# Altium footprint library Resistor.PcbLib: 3 footprints
Each footprint in its own frame and in the unit in brackets; x right, y up, seen from the top. Pads: shape width x height; smd on the part's side, far side on the other; paste and mask are expansions set on the pad; w line width, h text height; cw(c..) or ccw(c..) is an arc to the next point about the centre after c.
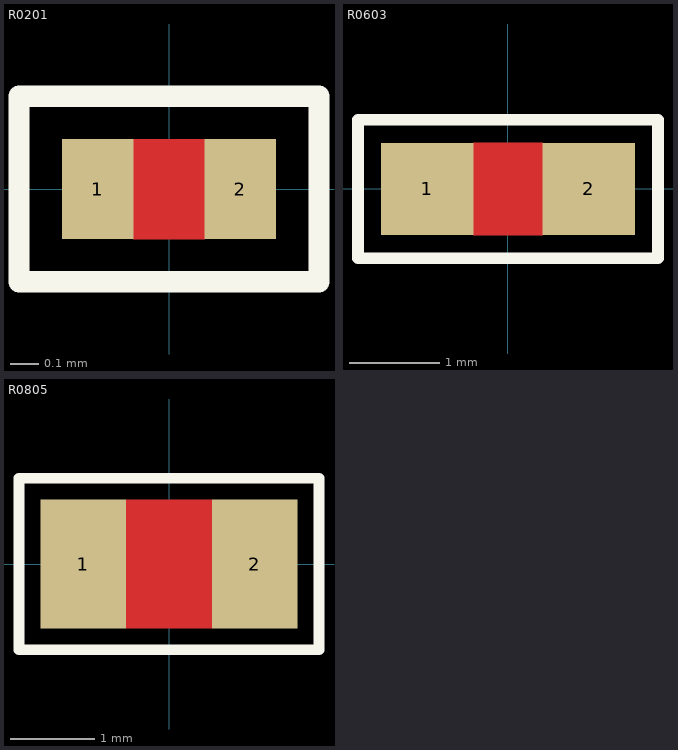
[diagram p0: the footprints below, top view; thin cyan lines are the x and y axes]

## R0201 [mil]
pads (2):
  rect 10x14 smd: 1(-10,0) 2(10,0)
Top Layer:
  pour cut-out: -5,7 5,7 5,-7 -5,-7
Top Overlay:
  lines w3: -21,-13 -21,13 21,13 21,-13 -21,-13
3D body "0201 Res.step": height 12.1, standoff 0, extent -11.99,-6 12.01,6

## R0603 [mil]
pads (2):
  rect 40x40 smd: 1(-35,0) 2(35,0)
Top Layer:
  pour cut-out: -15,20 15,20 15,-20 -15,-20
Top Overlay:
  lines w5: -65,-30 -65,30 65,30 65,-30 -65,-30
3D body "0603 SMD RES.step": height 11.89, standoff 0, extent -31.49,-15.74 31.5,15.75

## R0805 [mil]
pads (2):
  rect 40x60 smd: 1(-40,0) 2(40,0)
Top Layer:
  pour cut-out: -20,30 20,30 20,-30 -20,-30
Top Overlay:
  lines w5: -70,-40 -70,40 70,40 70,-40 -70,-40
3D body "User Library-0805 SMD Resistor.step": height 30.79, standoff 0, extent -39.37,-24.71 39.37,24.5